# EAGLE library part RESISTOR_ARRAY-4 (library ANIMAlib)
Chip Resistor Array 4 Single Resistor Source: http://industrial.panasonic.com/www-data/pdf/AOC0000/AOC0000PE2.pdf
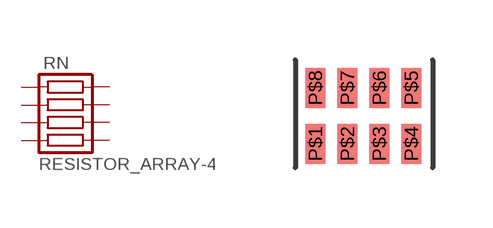
[diagram p5: symbol with the pads of EXB-38V271JV; footprint EXB-38V271JV]

Designator prefix RN

## RESISTOR_ARRAY-4 (OC_FARNELL: unknown; OC_NEWARK: unknown)  [EXB-38V271JV]
P$1  1  pas
P$2  2  pas
P$3  3  pas
P$4  4  pas
P$5  5  pas
P$6  6  pas
P$7  7  pas
P$8  8  pas

## Footprint EXB-38V271JV (pad centres in mm)
Chip Resistor Array Source: http://www.ctscorp.com/components/Datasheets/CTSChipArrayDs.pdf
smd 0.5 x 1: P$1 0,0; P$2 0.8,0; P$3 1.6,0; P$4 2.4,0; P$5 2.4,1.4; P$6 1.6,1.4; P$7 0.8,1.4; P$8 0,1.4